# Altium schematic symbol library RES,0R0,0.25W,1206.Schlib: 1 symbol
Pins are listed as number, name and electrical type; pins without a type are passive.

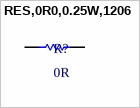
[diagram p0: symbol RES,0R0,0.25W,1206]

## RES,0R0,0.25W,1206
designator R?, comment 0R
0 Ohms Jumper Chip Resistor 1206 (3216 Metric) Automotive AEC-Q200 Thick Film
pins: 1, 2